# Altium footprint library PCBLIB2.PcbLib: 63 footprints (part 4 of 4)
Each footprint in its own frame and in the unit in brackets; x right, y up, seen from the top. Pads: shape width x height; smd on the part's side, far side on the other; paste and mask are expansions set on the pad; w line width, h text height; cw(c..) or ccw(c..) is an arc to the next point about the centre after c.
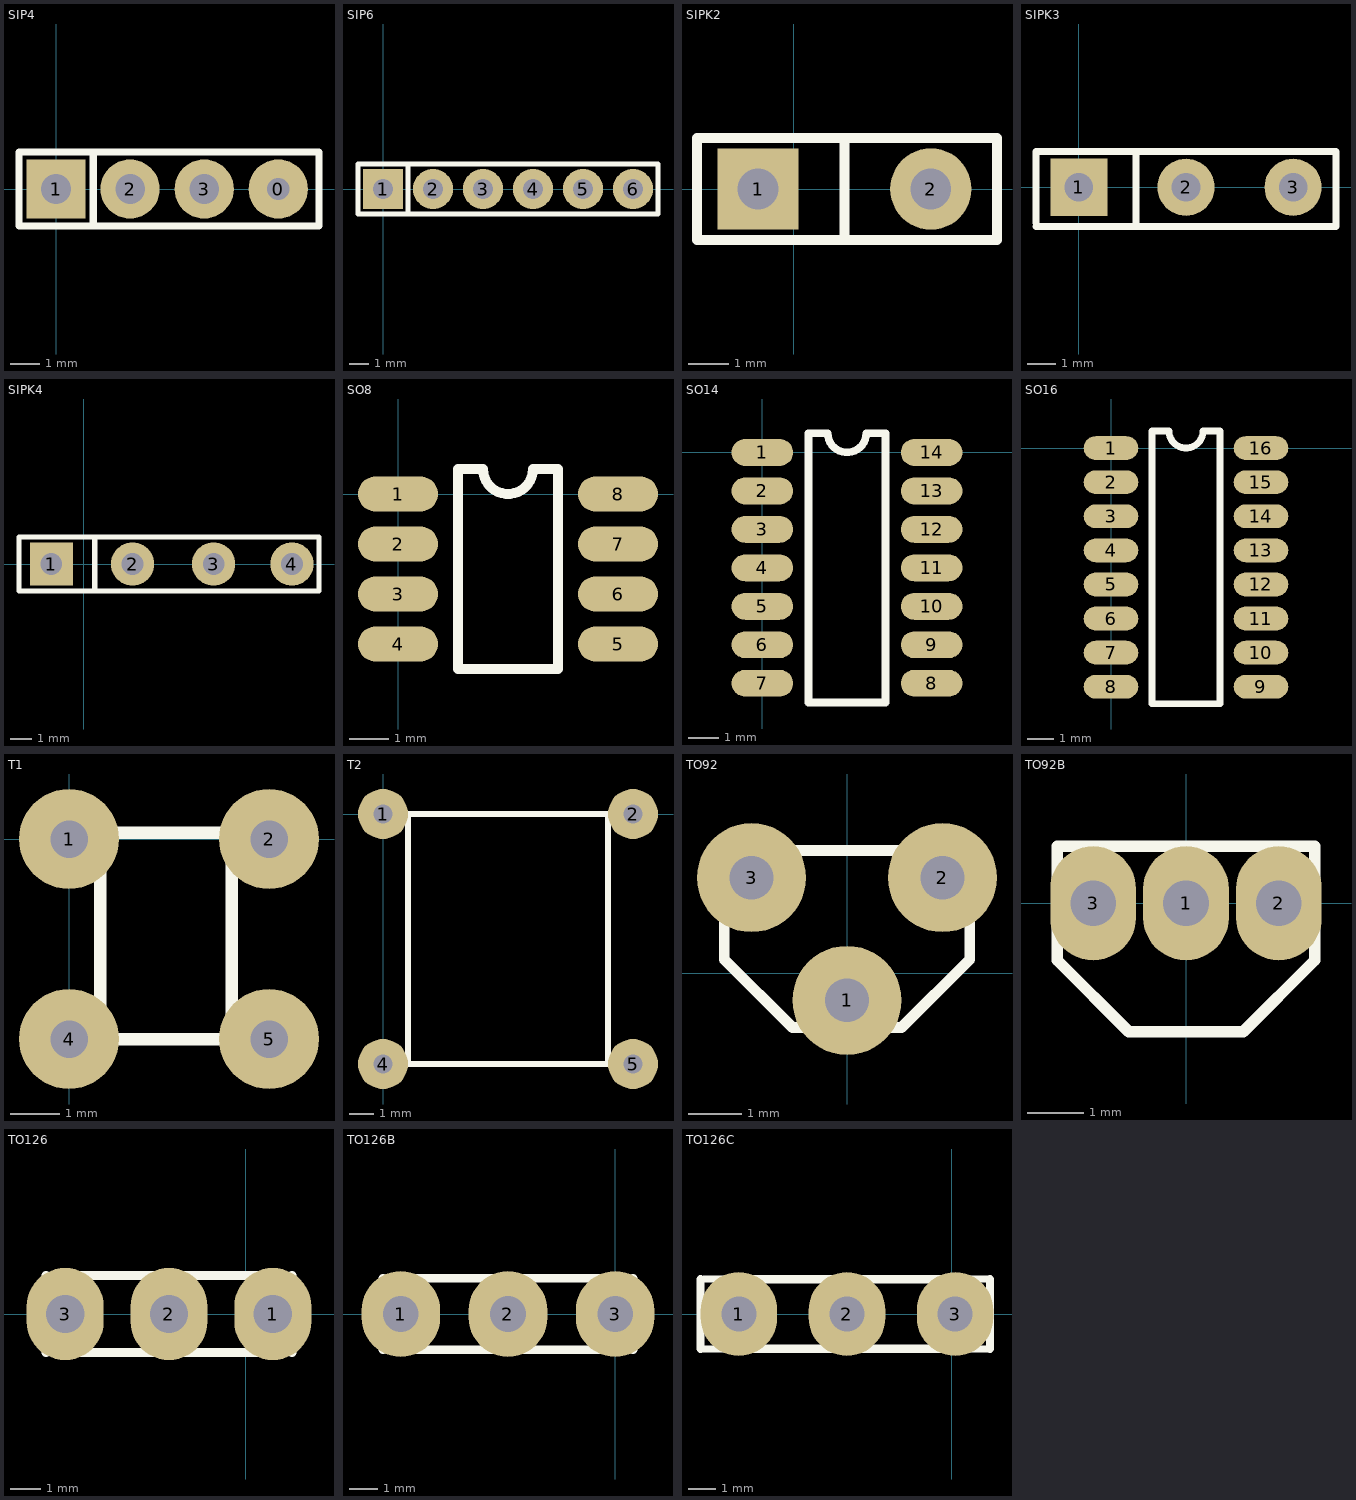
[diagram p3: the footprints below, top view; thin cyan lines are the x and y axes]

## SIP4 [mil]
pads (4):
  round 80 hole 30: 0(300,0)
  rect 80x80 hole 40: 1(0,0)
  round 80 hole 40: 2(100,0) 3(200,0)
TopOverlay:
  lines w10: 50,-50 50,50 ; -50,-50 255,-50 355,-50 355,50 340,50 255,50 -50,50 -50,-50

## SIP6 [mil]
pads (6):
  rect 80x80 hole 40: 1(0,0)
  round 80 hole 40: 2(100,0) 3(200,0) 4(300,0) 5(400,0) 6(500,0)
TopOverlay:
  lines w10: 50,-50 50,50 ; -50,-50 -50,50 550,50 550,-50 -50,-50

## SIPK2 [mil]
pads (2):
  rect 80x80 hole 40: 1(-35,0)
  round 80 hole 40: 2(135,0)
TopOverlay:
  lines w10: 50,-50 50,50 ; -95,-50 -50,-50 150,-50 200,-50 200,50 150,50 -50,50 -95,50 -95,-50

## SIPK3 [mil]
pads (3):
  rect 80x80 hole 40: 1(0,0)
  round 80 hole 40: 2(150,0) 3(300,0)
TopOverlay:
  lines w10: -60,-55 360,-55 360,-50 360,-40 360,50 15,50 -60,50 -60,-50 ; 80,-50 80,50

## SIPK4 [mil]
pads (4):
  rect 80x80 hole 40: 1(-60,0)
  round 80 hole 40: 2(90,0) 3(240,0) 4(385,0)
TopOverlay:
  lines w10: -50,50 350,50 435,50 435,-50 350,-50 -50,-50 -120,-50 -120,50 -45,50 ; 20,-50 20,50

## SO8 [mil]
pads (8):
  oval 80x35 smd: 1(0,0) 2(0,-50) 3(0,-100) 4(0,-150) 5(220,-150) 6(220,-100) 7(220,-50) 8(220,0)
TopOverlay:
  lines w10: 60,-175 60,25 85,25 ccw(c110,25) 135,25 160,25 160,-175 60,-175

## SO14 [mil]
pads (14):
  oval 80x35 smd: 1(0,0) 2(0,-50) 3(0,-100) 4(0,-150) 5(0,-200) 6(0,-250) 7(0,-300) 8(220,-300) 9(220,-250) 10(220,-200) 11(220,-150) 12(220,-100) 13(220,-50) 14(220,0)
TopOverlay:
  lines w10: 60,-325 160,-325 160,25 135,25 cw(c110,25) 85,25 60,25 60,-325

## SO16 [mil]
pads (16):
  oval 80x35 smd: 1(0,0) 2(0,-50) 3(0,-100) 4(0,-150) 5(0,-200) 6(0,-250) 7(0,-300) 8(0,-350) 9(220,-350) 10(220,-300) 11(220,-250) 12(220,-200) 13(220,-150) 14(220,-100) 15(220,-50) 16(220,0)
TopOverlay:
  lines w10: 60,-375 60,25 85,25 ccw(c110,25) 135,25 160,25 160,-375 60,-375

## T1 [mil]
pads (4):
  round 80 hole 30: 1(0,0) 2(160,0) 4(0,-160) 5(160,-160)
TopOverlay:
  lines w10: 25,-155 25,5 130,5 130,-160 30,-160 25,-155

## T2 [mil]
pads (4):
  round 80 hole 30: 1(0,0) 2(400,0) 4(0,-400) 5(400,-400)
TopOverlay:
  lines w10: 40,-400 40,0 360,0 360,-400 40,-400

## TO92 [mil]
pads (3):
  round 80 hole 32: 1(0,-20) 2(70,70) 3(-70,70)
TopOverlay:
  lines w8: -90,10 -40,-40 40,-40 90,10 90,90 -90,90 -90,10

## TO92B [mil]
pads (3):
  oval 60x80 hole 32: 1(0,0) 2(65,0) 3(-65,0)
TopOverlay:
  lines w8: -90,-40 -90,40 90,40 90,-40 40,-90 -40,-90 -90,-40

## TO126 [mil]
pads (3):
  oval 100x120 hole 50: 1(35,0) 2(-100,0) 3(-235,0)
TopOverlay:
  lines w12: -260,-50 -260,50 ; -250,-50 50,-50 ; -250,50 50,50 ; 60,-50 60,50

## TO126B [mil]
pads (3):
  oval 110x120 hole 50: 1(-300,0) 2(-150,0) 3(0,0)
TopOverlay:
  lines w10: -325,50 -275,50 ; -320,-50 -280,-50
  lines w12: -325,-50 -325,50 ; -285,-50 15,-50 ; -285,50 15,50 ; 25,-50 25,50

## TO126C [mil]
pads (3):
  oval 110x120 hole 50: 1(-305,0) 2(-150,0) 3(5,0)
TopOverlay:
  lines w10: -360,-50 -315,-50 ; -355,50 -325,50 -275,50 ; -320,-50 -280,-50 ; 15,-50 55,-50 ; 15,50 55,50
  lines w12: -360,-50 -360,50 ; -285,-50 15,-50 ; -285,50 15,50 ; 55,-50 55,50